# Altium schematic symbol library LTM4620AIY#PBF.Schlib: 1 symbol
Pins are listed as number, name and electrical type; pins without a type are passive.

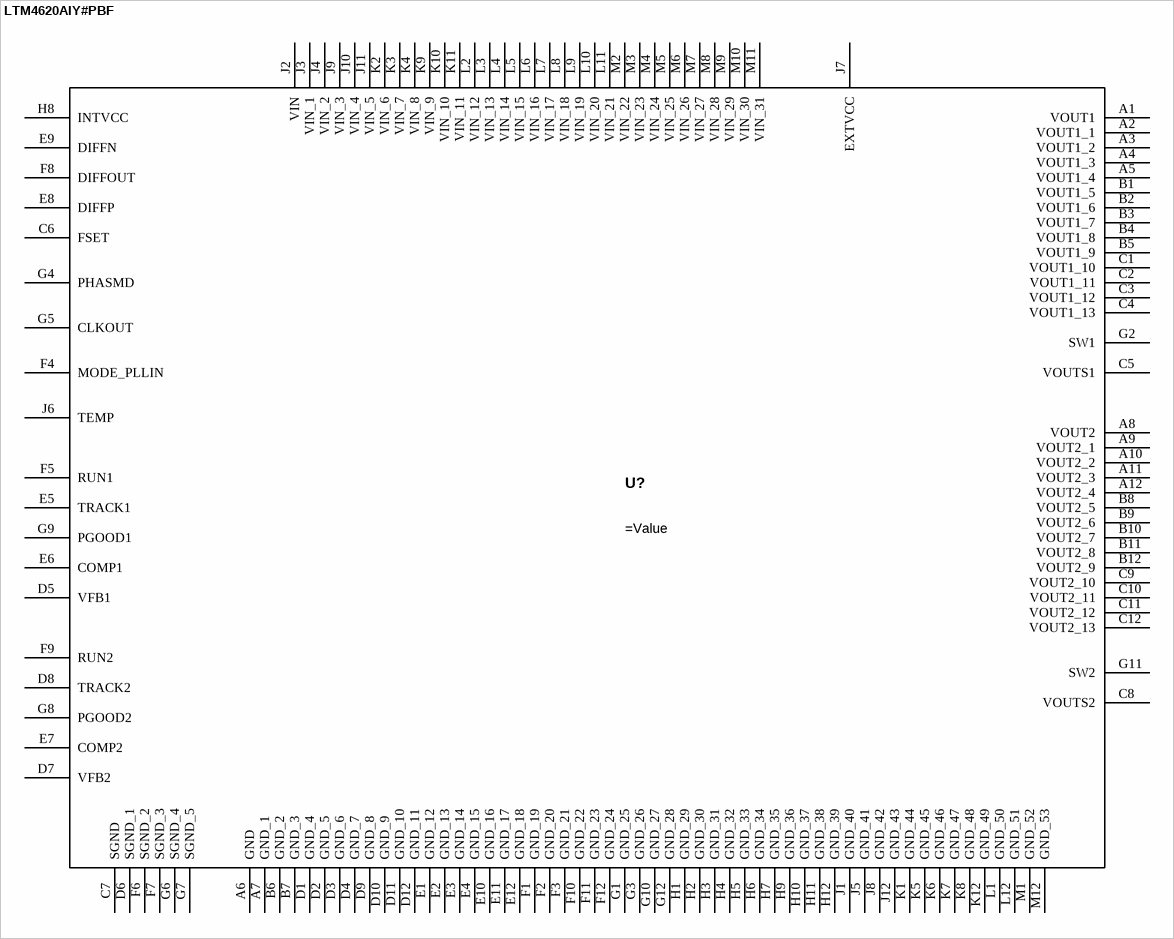
[diagram p0: symbol LTM4620AIY#PBF]

## LTM4620AIY#PBF
designator U?
DC/DC CNVRTR 2X0.6-5.3V 144BGA
pins: A1 VOUT1, A2 VOUT1_1, A3 VOUT1_2, A4 VOUT1_3, A5 VOUT1_4, A6 GND, A7 GND_1, A8 VOUT2, A9 VOUT2_1, A10 VOUT2_2, A11 VOUT2_3, A12 VOUT2_4, B1 VOUT1_5, B2 VOUT1_6, B3 VOUT1_7, B4 VOUT1_8, B5 VOUT1_9, B6 GND_2, B7 GND_3, B8 VOUT2_5, B9 VOUT2_6, B10 VOUT2_7, B11 VOUT2_8, B12 VOUT2_9, C1 VOUT1_10, C2 VOUT1_11, C3 VOUT1_12, C4 VOUT1_13, C5 VOUTS1, C6 FSET, C7 SGND, C8 VOUTS2, C9 VOUT2_10, C10 VOUT2_11, C11 VOUT2_12, C12 VOUT2_13, D1 GND_4, D2 GND_5, D3 GND_6, D4 GND_7, D5 VFB1, D6 SGND_1, D7 VFB2, D8 TRACK2, D9 GND_8, D10 GND_9, D11 GND_10, D12 GND_11, E1 GND_12, E2 GND_13, E3 GND_14, E4 GND_15, E5 TRACK1, E6 COMP1, E7 COMP2, E8 DIFFP, E9 DIFFN, E10 GND_16, E11 GND_17, E12 GND_18, F1 GND_19, F2 GND_20, F3 GND_21, F4 MODE_PLLIN, F5 RUN1, F6 SGND_2, F7 SGND_3, F8 DIFFOUT, F9 RUN2, F10 GND_22, F11 GND_23, F12 GND_24, G1 GND_25, G2 SW1, G3 GND_26, G4 PHASMD, G5 CLKOUT, G6 SGND_4, G7 SGND_5, G8 PGOOD2, G9 PGOOD1, G10 GND_27, G11 SW2, G12 GND_28, H1 GND_29, H2 GND_30, H3 GND_31, H4 GND_32, H5 GND_33, H6 GND_34, H7 GND_35, H8 INTVCC, H9 GND_36, H10 GND_37, H11 GND_38, H12 GND_39, J1 GND_40, J2 VIN, J3 VIN_1, J4 VIN_2, J5 GND_41, J6 TEMP, J7 EXTVCC, J8 GND_42, J9 VIN_3, J10 VIN_4, J11 VIN_5, J12 GND_43, K1 GND_44, K2 VIN_6, K3 VIN_7, K4 VIN_8, K5 GND_45, K6 GND_46, K7 GND_47, K8 GND_48, K9 VIN_9, K10 VIN_10, K11 VIN_11, K12 GND_49, L1 GND_50, L2 VIN_12, L3 VIN_13, L4 VIN_14, L5 VIN_15, L6 VIN_16, L7 VIN_17, L8 VIN_18, L9 VIN_19, L10 VIN_20, L11 VIN_21, L12 GND_51, M1 GND_52, M2 VIN_22, M3 VIN_23, M4 VIN_24, M5 VIN_25, M6 VIN_26, M7 VIN_27, M8 VIN_28, M9 VIN_29, M10 VIN_30, M11 VIN_31, M12 GND_53